# Altium footprint library header.PcbLib: 1 footprints
Each footprint in its own frame and in the unit in brackets; x right, y up, seen from the top. Pads: shape width x height; smd on the part's side, far side on the other; paste and mask are expansions set on the pad; w line width, h text height; cw(c..) or ccw(c..) is an arc to the next point about the centre after c.
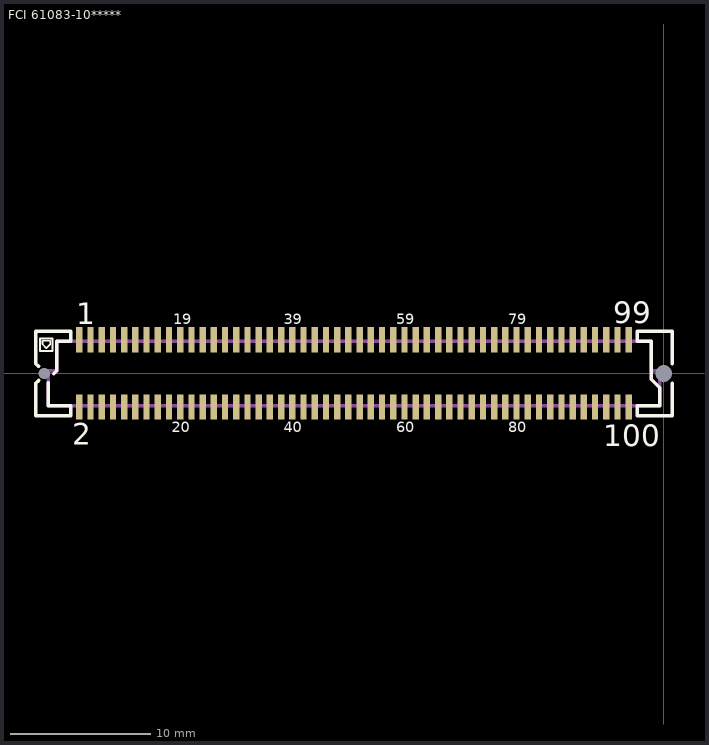
[diagram p0: the footprint, top view; thin cyan lines are the x and y axes]

## FCI 61083-10***** [mm] "2X50 Header by FCI"
height 5
pads (102):
  round 0 hole 0.8 unplated: 0(-44.2,0)
  round 0 hole 1.2 unplated: 0(0,0)
  rect 0.45x1.8 smd: 1(-41.7,2.4) 2(-41.7,-2.4) 3(-40.9,2.4) 4(-40.9,-2.4) 5(-40.1,2.4) 6(-40.1,-2.4) 7(-39.3,2.4) 8(-39.3,-2.4) 9(-38.5,2.4) 10(-38.5,-2.4) 11(-37.7,2.4) 12(-37.7,-2.4) 13(-36.9,2.4) 14(-36.9,-2.4) 15(-36.1,2.4) 16(-36.1,-2.4) 17(-35.3,2.4) 18(-35.3,-2.4) 19(-34.5,2.4) 20(-34.5,-2.4) 21(-33.7,2.4) 22(-33.7,-2.4) 23(-32.9,2.4) 24(-32.9,-2.4) 25(-32.1,2.4) 26(-32.1,-2.4) 27(-31.3,2.4) 28(-31.3,-2.4) 29(-30.5,2.4) 30(-30.5,-2.4) 31(-29.7,2.4) 32(-29.7,-2.4) 33(-28.9,2.4) 34(-28.9,-2.4) 35(-28.1,2.4) 36(-28.1,-2.4) 37(-27.3,2.4) 38(-27.3,-2.4) 39(-26.5,2.4) 40(-26.5,-2.4) 41(-25.7,2.4) 42(-25.7,-2.4) 43(-24.9,2.4) 44(-24.9,-2.4) 45(-24.1,2.4) 46(-24.1,-2.4) 47(-23.3,2.4) 48(-23.3,-2.4) 49(-22.5,2.4) 50(-22.5,-2.4) 51(-21.7,2.4) 52(-21.7,-2.4) 53(-20.9,2.4) 54(-20.9,-2.4) 55(-20.1,2.4) 56(-20.1,-2.4) 57(-19.3,2.4) 58(-19.3,-2.4) 59(-18.5,2.4) 60(-18.5,-2.4) 61(-17.7,2.4) 62(-17.7,-2.4) 63(-16.9,2.4) 64(-16.9,-2.4) 65(-16.1,2.4) 66(-16.1,-2.4) 67(-15.3,2.4) 68(-15.3,-2.4) 69(-14.5,2.4) 70(-14.5,-2.4) 71(-13.7,2.4) 72(-13.7,-2.4) 73(-12.9,2.4) 74(-12.9,-2.4) 75(-12.1,2.4) 76(-12.1,-2.4) 77(-11.3,2.4) 78(-11.3,-2.4) 79(-10.5,2.4) 80(-10.5,-2.4) 81(-9.7,2.4) 82(-9.7,-2.4) 83(-8.9,2.4) 84(-8.9,-2.4) 85(-8.1,2.4) 86(-8.1,-2.4) 87(-7.3,2.4) 88(-7.3,-2.4) 89(-6.5,2.4) 90(-6.5,-2.4) 91(-5.7,2.4) 92(-5.7,-2.4) 93(-4.9,2.4) 94(-4.9,-2.4) 95(-4.1,2.4) 96(-4.1,-2.4) 97(-3.3,2.4) 98(-3.3,-2.4) 99(-2.5,2.4) 100(-2.5,-2.4)
Top Overlay:
  lines w0.12: -44.325,2.075 -44.325,2.325 -43.775,2.325 -43.775,2.075 -44.05,1.8 -44.325,2.075
  lines w0.15: -44.5,1.6 -43.6,1.6 -43.6,2.5 -44.5,2.5 -44.5,1.6
  lines w0.25: -44.6,-0.5 -44.8,-0.7 -44.8,-3 -42.3,-3 -42.3,-2.3 -43.9,-2.3 -43.9,-0.648 ; -44.6,0.5 -44.8,0.7 -44.8,3 -42.3,3 -42.3,2.3 -43.3,2.3 -43.3,0.2 -43.526,-0.026 ; 0.6,-0.7 0.6,-3 -1.9,-3 -1.9,-2.3 -0.3,-2.3 -0.3,-1.023 -0.9,-0.423 -0.9,0.2 -0.9,2.3 -1.9,2.3 -1.9,3 0.6,3 0.6,0.7
  text "1" at -41.9,3.5 h1.52
  text "2" at -42.2,-5.1 h1.52
  text "99" at -3.6,3.6 h1.52
  text "100" at -4.3,-5.2 h1.52
  text "39" at -27.1,3.5 h0.76
  text "40" at -27.1,-4.2 h0.76
  text "20" at -35.1,-4.2 h0.76
  text "19" at -35,3.5 h0.76
  text "59" at -19.1,3.5 h0.76
  text "60" at -19.1,-4.2 h0.76
  text "80" at -11.1,-4.2 h0.76
  text "79" at -11.1,3.5 h0.76
Mechanical 13:
  lines w0.25: -43.3,2.3 -0.9,2.3 -0.9,0.2 -0.3,0.2 -0.3,-2.3 -43.9,-2.3 -43.9,0.2 -43.3,0.2 -43.3,2.3 ; -43.3,2.3 -43.3,2.3
3D body: height 4.65, standoff -0.7, extent -45,-3 0.8,3